# EAGLE library part WE-DS_216611003 (library Wurth_Elektronik_Passive_rev16c)
WE-DS D-SUB-Filter, Solder Pin Straight Characteristics Standard type filtered with 1000 pF High attenuation: max. ≥ 40 dB @ 180 MHz Choice of UNC 4/40 or through hole Rated voltage: 100 VDC Rated current @ 20 ºC: 5 A Withstand voltage: 250 VRMS Insulation resistance: min. 1000 MΩ Operating temperature: –55 ºC to +125 ºC Applications Filtering of interfaces External connection to -printer -sensor -display <http://katalog.we-online.de/media/thumbs2/eisos/thb_AbsDSubFilter_gerader_Loetstift_pf2.jpg> Details see: http://katalog.we-online.de/en/pbs/Filter_gerade Created on 2015-05-04 2015 (C) Wurth Elektronik
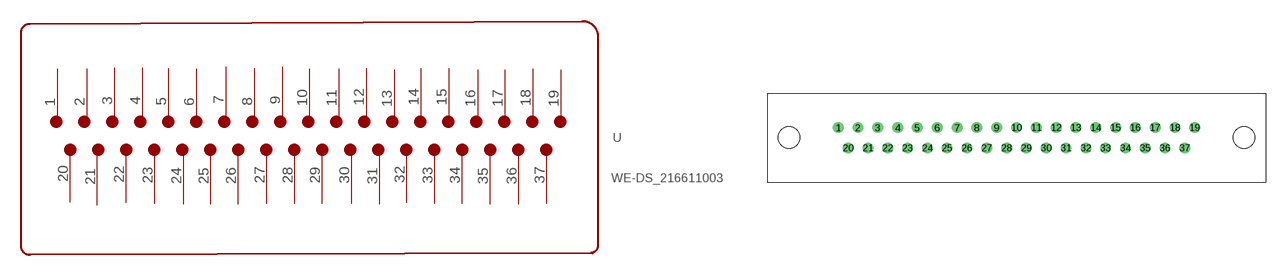
[diagram p209: symbol with the pads of WE-DS_2166110X3; footprint WE-DS_2166110X3]

Designator prefix -

## WE-DS_216611003  [WE-DS_2166110X3]
1  1
2  2
3  3
4  4
5  5
6  6
7  7
8  8
9  9
10  10
11  11
12  12
13  13
14  14
15  15
16  16
17  17
18  18
19  19
20  20
21  21
22  22
23  23
24  24
25  25
26  26
27  27
28  28
29  29
30  30
31  31
32  32
33  33
34  34
35  35
36  36
37  37

## Footprint WE-DS_2166110X3 (pad centres in mm)
drill 1: 1 -23.42,1.42; 2 -20.68,1.42; 3 -17.91,1.42; 4 -15.14,1.42; 5 -12.4,1.42; 6 -9.63,1.42; 7 -6.86,1.42; 8 -4.12,1.42; 9 -1.35,1.42; 10 1.42,1.42; 11 4.19,1.42; 12 6.96,1.42; 13 9.7,1.42; 14 12.47,1.42; 15 15.24,1.42; 16 17.98,1.42; 17 20.75,1.42; 18 23.52,1.42; 19 26.26,1.42; 20 -22.05,-1.42; 21 -19.28,-1.42; 22 -16.54,-1.42; 23 -13.77,-1.42; 24 -11,-1.42; 25 -8.26,-1.42; 26 -5.49,-1.42; 27 -2.72,-1.42; 28 0.04,-1.42; 29 2.8,-1.42; 30 5.56,-1.42; 31 8.33,-1.42; 32 11.1,-1.42; 33 13.84,-1.42; 34 16.61,-1.42; 35 19.38,-1.42; 36 22.12,-1.42; 37 24.89,-1.42
hole 3 at -30.33,0
hole 3 at 33.17,0